# Altium integrated library RF Inductors-TCI_rev15a.intlib: 31 symbols
Pins are listed as number, name and electrical type; pins without a type are passive.

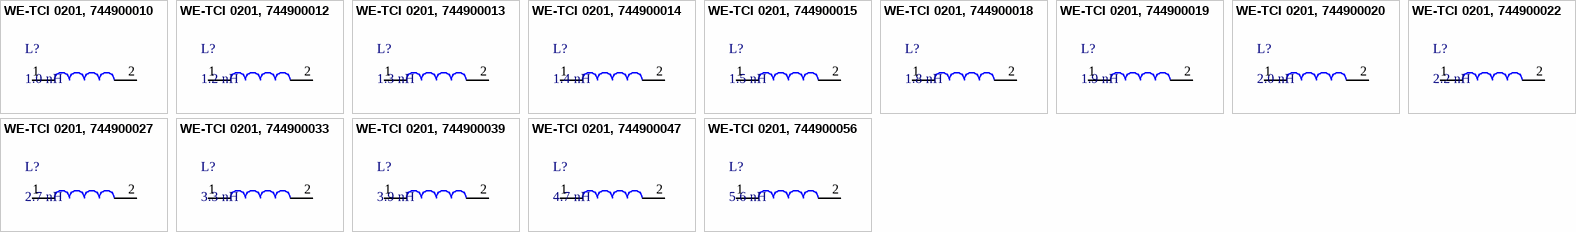
[diagram p0: symbols WE-TCI 0201, 744900010 to WE-TCI 0201, 744900056]

## WE-TCI 0201, 744900010
designator L?, comment 1.0 nH
WE-TCI Thinfilm Chip Inductor, Inductance = 1.0 nH; partNo: 744900010; Manufacturer: Wurth Elektronik; Inductance: 1.0 nH; ComponentLink1Description: Manufacturer; ComponentLink1URL: http://www.we-online.de; Created by: Baojun Chen; Created Date: Nov.2015; ComponentLink2Description: Datasheet; ComponentLink2URL: http://katalog.we-online.de/pbs/datasheet/744900010.pdf
footprint WE-TCI_0201
pins: 1, 2

## WE-TCI 0201, 744900012
designator L?, comment 1.2 nH
WE-TCI Thinfilm Chip Inductor, Inductance = 1.2 nH; partNo: 744900012; Manufacturer: Wurth Elektronik; Inductance: 1.2 nH; ComponentLink1Description: Manufacturer; ComponentLink1URL: http://www.we-online.de; Created by: Baojun Chen; Created Date: Nov.2015; ComponentLink2Description: Datasheet; ComponentLink2URL: http://katalog.we-online.de/pbs/datasheet/744900012.pdf
footprint WE-TCI_0201
pins: 1, 2

## WE-TCI 0201, 744900013
designator L?, comment 1.3 nH
WE-TCI Thinfilm Chip Inductor, Inductance = 1.3 nH; partNo: 744900013; Manufacturer: Wurth Elektronik; Inductance: 1.3 nH; ComponentLink1Description: Manufacturer; ComponentLink1URL: http://www.we-online.de; Created by: Baojun Chen; Created Date: Nov.2015; ComponentLink2Description: Datasheet; ComponentLink2URL: http://katalog.we-online.de/pbs/datasheet/744900013.pdf
footprint WE-TCI_0201
pins: 1, 2

## WE-TCI 0201, 744900014
designator L?, comment 1.4 nH
WE-TCI Thinfilm Chip Inductor, Inductance = 1.4 nH; partNo: 744900014; Manufacturer: Wurth Elektronik; Inductance: 1.4 nH; ComponentLink1Description: Manufacturer; ComponentLink1URL: http://www.we-online.de; Created by: Baojun Chen; Created Date: Nov.2015; ComponentLink2Description: Datasheet; ComponentLink2URL: http://katalog.we-online.de/pbs/datasheet/744900014.pdf
footprint WE-TCI_0201
pins: 1, 2

## WE-TCI 0201, 744900015
designator L?, comment 1.5 nH
WE-TCI Thinfilm Chip Inductor, Inductance = 1.5 nH; partNo: 744900015; Manufacturer: Wurth Elektronik; Inductance: 1.5 nH; ComponentLink1Description: Manufacturer; ComponentLink1URL: http://www.we-online.de; Created by: Baojun Chen; Created Date: Nov.2015; ComponentLink2Description: Datasheet; ComponentLink2URL: http://katalog.we-online.de/pbs/datasheet/744900015.pdf
footprint WE-TCI_0201
pins: 1, 2

## WE-TCI 0201, 744900018
designator L?, comment 1.8 nH
WE-TCI Thinfilm Chip Inductor, Inductance = 1.8 nH; partNo: 744900018; Manufacturer: Wurth Elektronik; Inductance: 1.8 nH; ComponentLink1Description: Manufacturer; ComponentLink1URL: http://www.we-online.de; Created by: Baojun Chen; Created Date: Nov.2015; ComponentLink2Description: Datasheet; ComponentLink2URL: http://katalog.we-online.de/pbs/datasheet/744900018.pdf
footprint WE-TCI_0201
pins: 1, 2

## WE-TCI 0201, 744900019
designator L?, comment 1.9 nH
WE-TCI Thinfilm Chip Inductor, Inductance = 1.9 nH; partNo: 744900019; Manufacturer: Wurth Elektronik; Inductance: 1.9 nH; ComponentLink1Description: Manufacturer; ComponentLink1URL: http://www.we-online.de; Created by: Baojun Chen; Created Date: Nov.2015; ComponentLink2Description: Datasheet; ComponentLink2URL: http://katalog.we-online.de/pbs/datasheet/744900019.pdf
footprint WE-TCI_0201
pins: 1, 2

## WE-TCI 0201, 744900020
designator L?, comment 2.0 nH
WE-TCI Thinfilm Chip Inductor, Inductance = 2.0 nH; partNo: 744900020; Manufacturer: Wurth Elektronik; Inductance: 2.0 nH; ComponentLink1Description: Manufacturer; ComponentLink1URL: http://www.we-online.de; Created by: Baojun Chen; Created Date: Nov.2015; ComponentLink2Description: Datasheet; ComponentLink2URL: http://katalog.we-online.de/pbs/datasheet/744900020.pdf
footprint WE-TCI_0201
pins: 1, 2

## WE-TCI 0201, 744900022
designator L?, comment 2.2 nH
WE-TCI Thinfilm Chip Inductor, Inductance = 2.2 nH; partNo: 744900022; Manufacturer: Wurth Elektronik; Inductance: 2.2 nH; ComponentLink1Description: Manufacturer; ComponentLink1URL: http://www.we-online.de; Created by: Baojun Chen; Created Date: Nov.2015; ComponentLink2Description: Datasheet; ComponentLink2URL: http://katalog.we-online.de/pbs/datasheet/744900022.pdf
footprint WE-TCI_0201
pins: 1, 2

## WE-TCI 0201, 744900027
designator L?, comment 2.7 nH
WE-TCI Thinfilm Chip Inductor, Inductance = 2.7 nH; partNo: 744900027; Manufacturer: Wurth Elektronik; Inductance: 2.7 nH; ComponentLink1Description: Manufacturer; ComponentLink1URL: http://www.we-online.de; Created by: Baojun Chen; Created Date: Nov.2015; ComponentLink2Description: Datasheet; ComponentLink2URL: http://katalog.we-online.de/pbs/datasheet/744900027.pdf
footprint WE-TCI_0201
pins: 1, 2

## WE-TCI 0201, 744900033
designator L?, comment 3.3 nH
WE-TCI Thinfilm Chip Inductor, Inductance = 3.3 nH; partNo: 744900033; Manufacturer: Wurth Elektronik; Inductance: 3.3 nH; ComponentLink1Description: Manufacturer; ComponentLink1URL: http://www.we-online.de; Created by: Baojun Chen; Created Date: Nov.2015; ComponentLink2Description: Datasheet; ComponentLink2URL: http://katalog.we-online.de/pbs/datasheet/744900033.pdf
footprint WE-TCI_0201
pins: 1, 2

## WE-TCI 0201, 744900039
designator L?, comment 3.9 nH
WE-TCI Thinfilm Chip Inductor, Inductance = 3.9 nH; partNo: 744900039; Manufacturer: Wurth Elektronik; Inductance: 3.9 nH; ComponentLink1Description: Manufacturer; ComponentLink1URL: http://www.we-online.de; Created by: Baojun Chen; Created Date: Nov.2015; ComponentLink2Description: Datasheet; ComponentLink2URL: http://katalog.we-online.de/pbs/datasheet/744900039.pdf
footprint WE-TCI_0201
pins: 1, 2

## WE-TCI 0201, 744900047
designator L?, comment 4.7 nH
WE-TCI Thinfilm Chip Inductor, Inductance = 4.7 nH; partNo: 744900047; Manufacturer: Wurth Elektronik; Inductance: 4.7 nH; ComponentLink1Description: Manufacturer; ComponentLink1URL: http://www.we-online.de; Created by: Baojun Chen; Created Date: Nov.2015; ComponentLink2Description: Datasheet; ComponentLink2URL: http://katalog.we-online.de/pbs/datasheet/744900047.pdf
footprint WE-TCI_0201
pins: 1, 2

## WE-TCI 0201, 744900056
designator L?, comment 5.6 nH
WE-TCI Thinfilm Chip Inductor, Inductance = 5.6 nH; partNo: 744900056; Manufacturer: Wurth Elektronik; Inductance: 5.6 nH; ComponentLink1Description: Manufacturer; ComponentLink1URL: http://www.we-online.de; Created by: Baojun Chen; Created Date: Nov.2015; ComponentLink2Description: Datasheet; ComponentLink2URL: http://katalog.we-online.de/pbs/datasheet/744900056.pdf
footprint WE-TCI_0201
pins: 1, 2


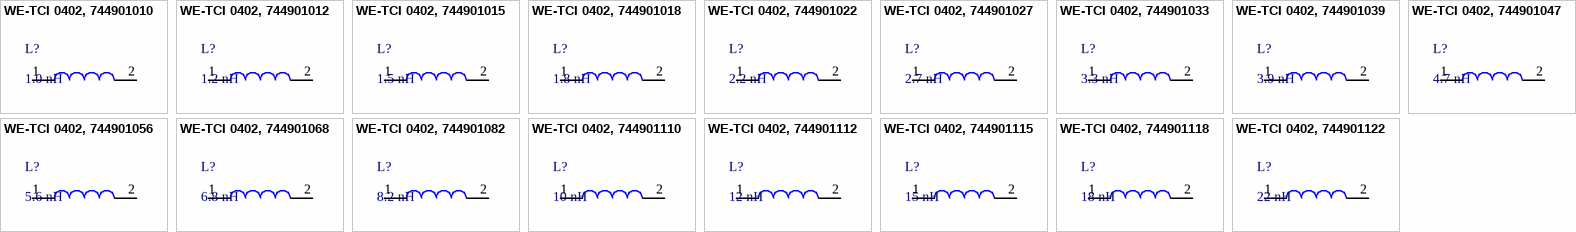
[diagram p1: symbols WE-TCI 0402, 744901010 to WE-TCI 0402, 744901122]

## WE-TCI 0402, 744901010
designator L?, comment 1.0 nH
WE-TCI Thinfilm Chip Inductor, Inductance = 1.0 nH; partNo: 744901010; Manufacturer: Wurth Elektronik; Inductance: 1.0 nH; ComponentLink1Description: Manufacturer; ComponentLink1URL: http://www.we-online.de; Created by: Baojun Chen; Created Date: Nov.2015; ComponentLink2Description: Datasheet; ComponentLink2URL: http://katalog.we-online.de/pbs/datasheet/744901010.pdf
footprint WE-TCI_0402
pins: 1, 2

## WE-TCI 0402, 744901012
designator L?, comment 1.2 nH
WE-TCI Thinfilm Chip Inductor, Inductance = 1.2 nH; partNo: 744901012; Manufacturer: Wurth Elektronik; Inductance: 1.2 nH; ComponentLink1Description: Manufacturer; ComponentLink1URL: http://www.we-online.de; Created by: Baojun Chen; Created Date: Nov.2015; ComponentLink2Description: Datasheet; ComponentLink2URL: http://katalog.we-online.de/pbs/datasheet/744901012.pdf
footprint WE-TCI_0402
pins: 1, 2

## WE-TCI 0402, 744901015
designator L?, comment 1.5 nH
WE-TCI Thinfilm Chip Inductor, Inductance = 1.5 nH; partNo: 744901015; Manufacturer: Wurth Elektronik; Inductance: 1.5 nH; ComponentLink1Description: Manufacturer; ComponentLink1URL: http://www.we-online.de; Created by: Baojun Chen; Created Date: Nov.2015; ComponentLink2Description: Datasheet; ComponentLink2URL: http://katalog.we-online.de/pbs/datasheet/744901015.pdf
footprint WE-TCI_0402
pins: 1, 2

## WE-TCI 0402, 744901018
designator L?, comment 1.8 nH
WE-TCI Thinfilm Chip Inductor, Inductance = 1.8 nH; partNo: 744901018; Manufacturer: Wurth Elektronik; Inductance: 1.8 nH; ComponentLink1Description: Manufacturer; ComponentLink1URL: http://www.we-online.de; Created by: Baojun Chen; Created Date: Nov.2015; ComponentLink2Description: Datasheet; ComponentLink2URL: http://katalog.we-online.de/pbs/datasheet/744901018.pdf
footprint WE-TCI_0402
pins: 1, 2

## WE-TCI 0402, 744901022
designator L?, comment 2.2 nH
WE-TCI Thinfilm Chip Inductor, Inductance = 2.2 nH; partNo: 744901022; Manufacturer: Wurth Elektronik; Inductance: 2.2 nH; ComponentLink1Description: Manufacturer; ComponentLink1URL: http://www.we-online.de; Created by: Baojun Chen; Created Date: Nov.2015; ComponentLink2Description: Datasheet; ComponentLink2URL: http://katalog.we-online.de/pbs/datasheet/744901022.pdf
footprint WE-TCI_0402
pins: 1, 2

## WE-TCI 0402, 744901027
designator L?, comment 2.7 nH
WE-TCI Thinfilm Chip Inductor, Inductance = 2.7 nH; partNo: 744901027; Manufacturer: Wurth Elektronik; Inductance: 2.7 nH; ComponentLink1Description: Manufacturer; ComponentLink1URL: http://www.we-online.de; Created by: Baojun Chen; Created Date: Nov.2015; ComponentLink2Description: Datasheet; ComponentLink2URL: http://katalog.we-online.de/pbs/datasheet/744901027.pdf
footprint WE-TCI_0402
pins: 1, 2

## WE-TCI 0402, 744901033
designator L?, comment 3.3 nH
WE-TCI Thinfilm Chip Inductor, Inductance = 3.3 nH; partNo: 744901033; Manufacturer: Wurth Elektronik; Inductance: 3.3 nH; ComponentLink1Description: Manufacturer; ComponentLink1URL: http://www.we-online.de; Created by: Baojun Chen; Created Date: Nov.2015; ComponentLink2Description: Datasheet; ComponentLink2URL: http://katalog.we-online.de/pbs/datasheet/744901033.pdf
footprint WE-TCI_0402
pins: 1, 2

## WE-TCI 0402, 744901039
designator L?, comment 3.9 nH
WE-TCI Thinfilm Chip Inductor, Inductance = 3.9 nH; partNo: 744901039; Manufacturer: Wurth Elektronik; Inductance: 3.9 nH; ComponentLink1Description: Manufacturer; ComponentLink1URL: http://www.we-online.de; Created by: Baojun Chen; Created Date: Nov.2015; ComponentLink2Description: Datasheet; ComponentLink2URL: http://katalog.we-online.de/pbs/datasheet/744901039.pdf
footprint WE-TCI_0402
pins: 1, 2

## WE-TCI 0402, 744901047
designator L?, comment 4.7 nH
WE-TCI Thinfilm Chip Inductor, Inductance = 4.7 nH; partNo: 744901047; Manufacturer: Wurth Elektronik; Inductance: 4.7 nH; ComponentLink1Description: Manufacturer; ComponentLink1URL: http://www.we-online.de; Created by: Baojun Chen; Created Date: Nov.2015; ComponentLink2Description: Datasheet; ComponentLink2URL: http://katalog.we-online.de/pbs/datasheet/744901047.pdf
footprint WE-TCI_0402
pins: 1, 2

## WE-TCI 0402, 744901056
designator L?, comment 5.6 nH
WE-TCI Thinfilm Chip Inductor, Inductance = 5.6 nH; partNo: 744901056; Manufacturer: Wurth Elektronik; Inductance: 5.6 nH; ComponentLink1Description: Manufacturer; ComponentLink1URL: http://www.we-online.de; Created by: Baojun Chen; Created Date: Nov.2015; ComponentLink2Description: Datasheet; ComponentLink2URL: http://katalog.we-online.de/pbs/datasheet/744901056.pdf
footprint WE-TCI_0402
pins: 1, 2

## WE-TCI 0402, 744901068
designator L?, comment 6.8 nH
WE-TCI Thinfilm Chip Inductor, Inductance = 6.8 nH; partNo: 744901068; Manufacturer: Wurth Elektronik; Inductance: 6.8 nH; ComponentLink1Description: Manufacturer; ComponentLink1URL: http://www.we-online.de; Created by: Baojun Chen; Created Date: Nov.2015; ComponentLink2Description: Datasheet; ComponentLink2URL: http://katalog.we-online.de/pbs/datasheet/744901068.pdf
footprint WE-TCI_0402
pins: 1, 2

## WE-TCI 0402, 744901082
designator L?, comment 8.2 nH
WE-TCI Thinfilm Chip Inductor, Inductance = 8.2 nH; partNo: 744901082; Manufacturer: Wurth Elektronik; Inductance: 8.2 nH; ComponentLink1Description: Manufacturer; ComponentLink1URL: http://www.we-online.de; Created by: Baojun Chen; Created Date: Nov.2015; ComponentLink2Description: Datasheet; ComponentLink2URL: http://katalog.we-online.de/pbs/datasheet/744901082.pdf
footprint WE-TCI_0402
pins: 1, 2

## WE-TCI 0402, 744901110
designator L?, comment 10 nH
WE-TCI Thinfilm Chip Inductor, Inductance = 10 nH; partNo: 744901110; Manufacturer: Wurth Elektronik; Inductance: 10 nH; ComponentLink1Description: Manufacturer; ComponentLink1URL: http://www.we-online.de; Created by: Baojun Chen; Created Date: Nov.2015; ComponentLink2Description: Datasheet; ComponentLink2URL: http://katalog.we-online.de/pbs/datasheet/744901110.pdf
footprint WE-TCI_0402
pins: 1, 2

## WE-TCI 0402, 744901112
designator L?, comment 12 nH
WE-TCI Thinfilm Chip Inductor, Inductance = 12 nH; partNo: 744901112; Manufacturer: Wurth Elektronik; Inductance: 12 nH; ComponentLink1Description: Manufacturer; ComponentLink1URL: http://www.we-online.de; Created by: Baojun Chen; Created Date: Nov.2015; ComponentLink2Description: Datasheet; ComponentLink2URL: http://katalog.we-online.de/pbs/datasheet/744901112.pdf
footprint WE-TCI_0402
pins: 1, 2

## WE-TCI 0402, 744901115
designator L?, comment 15 nH
WE-TCI Thinfilm Chip Inductor, Inductance = 15 nH; partNo: 744901115; Manufacturer: Wurth Elektronik; Inductance: 15 nH; ComponentLink1Description: Manufacturer; ComponentLink1URL: http://www.we-online.de; Created by: Baojun Chen; Created Date: Nov.2015; ComponentLink2Description: Datasheet; ComponentLink2URL: http://katalog.we-online.de/pbs/datasheet/744901115.pdf
footprint WE-TCI_0402
pins: 1, 2

## WE-TCI 0402, 744901118
designator L?, comment 18 nH
WE-TCI Thinfilm Chip Inductor, Inductance = 18 nH; partNo: 744901118; Manufacturer: Wurth Elektronik; Inductance: 18 nH; ComponentLink1Description: Manufacturer; ComponentLink1URL: http://www.we-online.de; Created by: Baojun Chen; Created Date: Nov.2015; ComponentLink2Description: Datasheet; ComponentLink2URL: http://katalog.we-online.de/pbs/datasheet/744901118.pdf
footprint WE-TCI_0402
pins: 1, 2

## WE-TCI 0402, 744901122
designator L?, comment 22 nH
WE-TCI Thinfilm Chip Inductor, Inductance = 22 nH; partNo: 744901122; Manufacturer: Wurth Elektronik; Inductance: 22 nH; ComponentLink1Description: Manufacturer; ComponentLink1URL: http://www.we-online.de; Created by: Baojun Chen; Created Date: Nov.2015; ComponentLink2Description: Datasheet; ComponentLink2URL: http://katalog.we-online.de/pbs/datasheet/744901122.pdf
footprint WE-TCI_0402
pins: 1, 2